# Altium schematic symbol library 1724480002.SchLib: 1 symbol
Pins are listed as number, name and electrical type; pins without a type are passive.

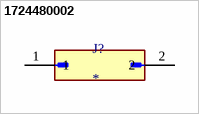
[diagram p0: symbol 1724480002]

## 1724480002
designator J?
Connector Header Through Hole, Right Angle 2 position -; MF: Molex, LLC; MP: 1724480002; Package: None; Check_prices: https://www.snapeda.com/parts/1724480002/Molex/view-part/?ref=eda; Value: *; Purchase-URL: https://pricing.snapeda.com/search/part/1724480002/?ref=eda; Availability: In Stock; SnapEDA_Link: https://www.snapeda.com/parts/1724480002/Molex/view-part/?ref=snap; Price: None
footprint MOLEX_1724480002
pins: 1, 2